# Altium schematic symbol library Symbols.SchLib: 1 symbol
Pins are listed as number, name and electrical type; pins without a type are passive.

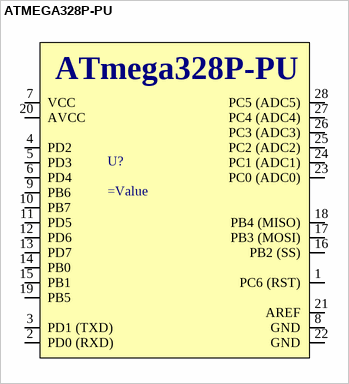
[diagram p0: symbol ATMEGA328P-PU]

## ATMEGA328P-PU
designator U?
footprint DIP790W46P254L3556H508Q28 (DIP, 7.90 mm lead span, 2.54 mm pitch; 28 pin, 35.56 mm L X 7.50 mm W X 5.08 mm H body)
pins: 1 PC6 (RST), 2 PD0 (RXD), 3 PD1 (TXD), 4 PD2, 5 PD3, 6 PD4, 7 VCC, 8 GND, 9 PB6, 10 PB7, 11 PD5, 12 PD6, 13 PD7, 14 PB0, 15 PB1, 16 PB2 (SS), 17 PB3 (MOSI), 18 PB4 (MISO), 19 PB5, 20 AVCC, 21 AREF, 22 GND, 23 PC0 (ADC0), 24 PC1 (ADC1), 25 PC2 (ADC2), 26 PC3 (ADC3), 27 PC4 (ADC4), 28 PC5 (ADC5)
text: ATmega328P-PU